# Altium schematic symbol library ICs.SchLib: 11 symbols
Pins are listed as number, name and electrical type; pins without a type are passive.

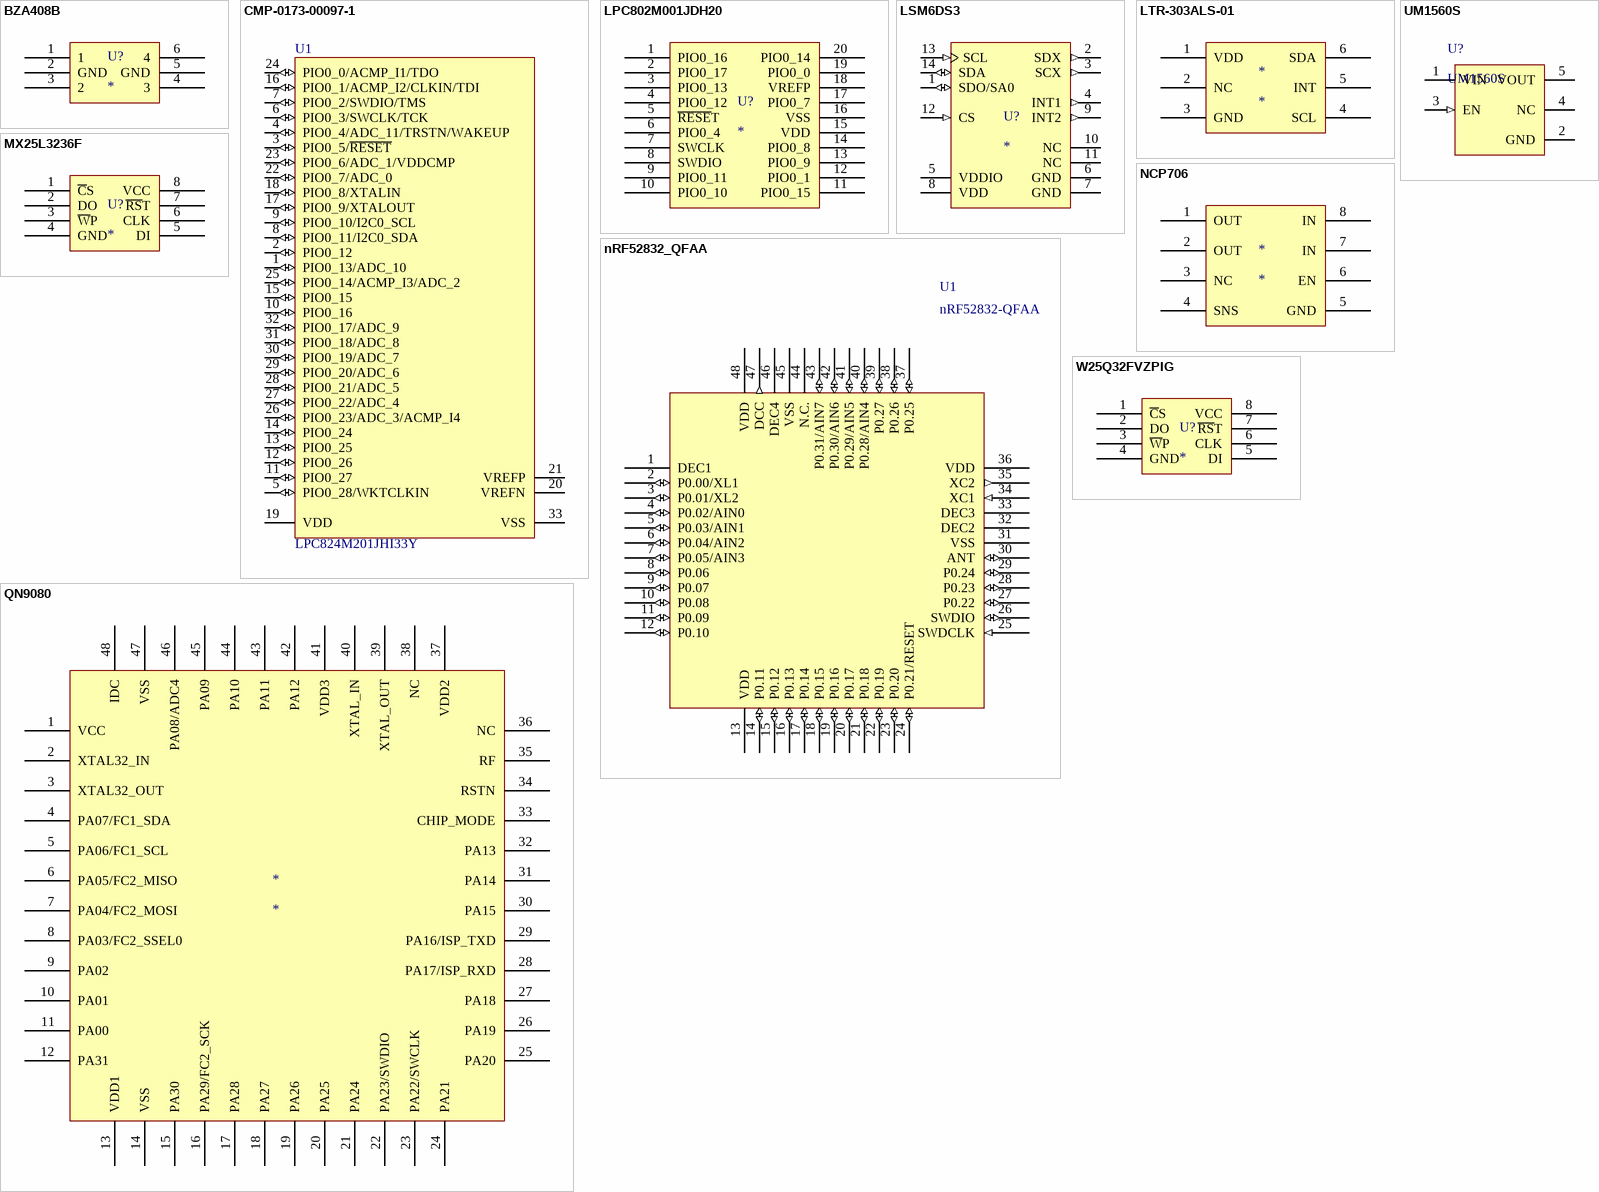
[diagram p0: symbols BZA408B to W25Q32FVZPIG]

## BZA408B
designator U?
Quadruple bidirectional ESD transient voltage suppressor
pins: 1, 2 GND, 3 2, 4 3, 5 GND, 6 4

## CMP-0173-00097-1
designator U1, comment LPC824M201JHI33Y
32-bit ARM Cortex-M0+ Microcontroller, 29 I/O, 32 KB Flash, 8 KB SRAM, -40 to 105 degC, 32-Pin HVQFN, Reel, RoHS; Manufacturer: NXP Semiconductors; RAM: 8 KB; Flash: 32 KB; Clock Speed: 30 MHz max.; ComponentLink1Description: Manufacturer URL; Mounting Technology: Surface Mount; Packing: Reel; Code_JEDEC: MO-220; ComponentLink2Description: Datasheet; PartNumber: LPC824M201JHI33; DatasheetVersion: Rev. 1; Core: Cortex-M0+; ComponentLink3Description: Package Specification; ComponentLink3URL: http://www.nxp.com/documents/outline_drawing/sot617-3_po.pdf; PackageDescription: 32-Pin Plastic Thermal Enhanced Very Thin Quad Flat Package, Body 5 x 5 mm, Pitch 0.5 mm; PackageVersion: 11-06-21, 06/2011; ComponentLink2URL: http://www.nxp.com/documents/data_sheet/LPC82X.pdf; ComponentLink1URL: www.nxp.com
footprint NXP-SOT617-3_N-adj (QFN, 32-Leads, Body 5x5mm, Pitch 0.5mm, Thermal Pad 3.6x3.6mm, IPC Medium Density)
pins: 1 PIO0_13/ADC_10 (io), 2 PIO0_12 (io) "PIO0_12 - General-purpose port 0 input/output 12. ISP entry pin. A LOW level on this pin during reset starts the ISP command handler.", 3 PIO0_5/~{RESET} (io), 4 PIO0_4/ADC_11/TRSTN/WAKEUP (io), 5 PIO0_28/WKTCLKIN (io), 6 PIO0_3/SWCLK/TCK (io), 7 PIO0_2/SWDIO/TMS (io), 8 PIO0_11/I2C0_SDA (io), 9 PIO0_10/I2C0_SCL (io), 10 PIO0_16 (io) "PIO0_16 - General-purpose port 0 input/output 16.", 11 PIO0_27 (io) "PIO0_27 - General-purpose port 0 input/output 27.", 12 PIO0_26 (io) "PIO0_26 - General-purpose port 0 input/output 26.", 13 PIO0_25 (io) "PIO0_25 - General-purpose port 0 input/output 25.", 14 PIO0_24 (io) "PIO0_24 - General-purpose port 0 input/output 24.", 15 PIO0_15 (io) "PIO0_15 - General-purpose port 0 input/output 15.", 16 PIO0_1/ACMP_I2/CLKIN/TDI (io), 17 PIO0_9/XTALOUT (io), 18 PIO0_8/XTALIN (io), 19 VDD (power) "Supply voltage for the I/O pad ring, the core voltage regulator, and the analog peripherals.", 20 VREFN (power) "ADC negative reference voltage.", 21 VREFP (power) "ADC positive reference voltage. Must be equal or lower than VDD.", 22 PIO0_7/ADC_0 (io), 23 PIO0_6/ADC_1/VDDCMP (io), 24 PIO0_0/ACMP_I1/TDO (io), 25 PIO0_14/ACMP_I3/ADC_2 (io), 26 PIO0_23/ADC_3/ACMP_I4 (io), 27 PIO0_22/ADC_4 (io), 28 PIO0_21/ADC_5 (io), 29 PIO0_20/ADC_6 (io), 30 PIO0_19/ADC_7 (io), 31 PIO0_18/ADC_8 (io), 32 PIO0_17/ADC_9 (io), 33 VSS (power) "Ground."

## LPC802M001JDH20
designator U?
32-bit Arm® Cortex®-M0+ microcontroller
footprint TSSOP20
pins: 1 PIO0_16, 2 PIO0_17, 3 PIO0_13, 4 PIO0_12, 5 ~{RESE}T, 6 PIO0_4, 7 SWCLK, 8 SWDIO, 9 PIO0_11, 10 PIO0_10, 11 PIO0_15, 12 PIO0_1, 13 PIO0_9, 14 PIO0_8, 15 VDD, 16 VSS, 17 PIO0_7, 18 VREFP, 19 PIO0_0, 20 PIO0_14

## LSM6DS3
designator U?
Motion sensor
footprint LGA-14
pins: 1 SDO/SA0 (io), 2 SDX (out) "Connect to VDDIO or GND/I2C serial data master (MSDA)", 3 SCX (out) "Connect to VDDIO or GND/I2C serial clock master (MSCL)", 4 INT1 (out) "Programmable interrupt 1", 5 VDDIO (power) "Power supply for I/O pins", 6 GND (power) "0 V supply", 7 GND (power) "0 V supply", 8 VDD (power) "Power supply", 9 INT2 (out) "Programmable interrupt 2  (INT2) / Data enable (DEN)/Programmable interrupt 2 (INT2)/  Data enable (DEN)/  I  2C master external synchronization  signal (MDRDY)", 10 NC "Leave unconnected", 11 NC "Leave unconnected", 12 CS (in) "I2C/SPI mode selection", 13 SCL (in) "I2C serial clock (SCL)  SPI serial port clock (SPC)", 14 SDA (io) "I2C serial data (SDA)  SPI serial data input (SDI)  3-wire interface serial data output  (SDO)"

## LTR-303ALS-01
designator *
Optical Sensor
footprint LTR-303ALS-01
pins: 1 VDD, 2 NC, 3 GND, 4 SCL, 5 INT, 6 SDA

## MX25L3236F
designator U?
NOR Flash Serial-SPI 3V/3.3V 32M-bit 4M x 8 8.5ns 8-Pin 8-SOP
footprint WSON8
pins: 1 ~{C}S, 2 DO, 3 ~{W}P, 4 GND, 5 DI, 6 CLK, 7 ~{RS}T, 8 VCC

## NCP706
designator *
footprint XDFN8
pins: 1 OUT, 2 OUT, 3 NC, 4 SNS, 5 GND, 6 EN, 7 IN, 8 IN, 9 GND hidden to GND

## nRF52832_QFAA
designator U1, comment nRF52832-QFAA
Multi-protocol Bluetooth Low Energy and 2.4GHz proprietary system-on-chip; Manufacturer: Nordic Semiconductor; Artikkelnr Noca: N.A.; Part Number: nRF52832-QFAA; Manufacturer Part Number: nRF52832-QFAA; Datasheet: *; LatestRevisionDate: 2014-11-26; Pin Count: 48; Publisher: Nordic Semiconductor; Published: 2014-11-26; Value: nRF52832-QFAA; Note: *; Supplier: Nordic Semiconductor; Supplier part number: *; 2nd source Supplier: *; 2nd source part number: *; Footprint Doc: QFN-48; Artikkelnr Simpro: N.A.
footprint QFN48P600X600X90-48N - duplicate (QFN, 48-Leads, Body 6,0x6,0mm (max), Pitch 0,40mm, IPC Medium Density)
pins: 1 DEC1 (power), 2 P0.00/XL1 (io), 3 P0.01/XL2 (io), 4 P0.02/AIN0 (io), 5 P0.03/AIN1 (io), 6 P0.04/AIN2 (io), 7 P0.05/AIN3 (io), 8 P0.06 (io), 9 P0.07 (io), 10 P0.08 (io), 11 P0.09 (io), 12 P0.10 (io), 13 VDD (power), 14 P0.11 (io), 15 P0.12 (io), 16 P0.13 (io), 17 P0.14 (io), 18 P0.15 (io), 19 P0.16 (io), 20 P0.17 (io), 21 P0.18 (io), 22 P0.19 (io), 23 P0.20 (io), 24 P0.21/RESET (io), 25 SWDCLK (in), 26 SWDIO (io), 27 P0.22 (io), 28 P0.23 (io), 29 P0.24 (io), 30 ANT (io), 31 VSS (power), 32 DEC2 (power), 33 DEC3 (power), 34 XC1 (in), 35 XC2 (out), 36 VDD (power), 37 P0.25 (io), 38 P0.26 (io), 39 P0.27 (io), 40 P0.28/AIN4 (io), 41 P0.29/AIN5 (io), 42 P0.30/AIN6 (io), 43 P0.31/AIN7 (io), 44 N.C. (power), 45 VSS (power), 46 DEC4 (power), 47 DCC (out), 48 VDD (power), 49 GND (power) hidden to GND

## QN9080
designator *
BLE microcontroller with 32-bit ARM Cortex-M4
footprint QFN48P600X600X90-48N - duplicate (QFN, 48-Leads, Body 6,0x6,0mm (max), Pitch 0,40mm, IPC Medium Density)
pins: 1 VCC, 2 XTAL32_IN, 3 XTAL32_OUT, 4 PA07/FC1_SDA, 5 PA06/FC1_SCL, 6 PA05/FC2_MISO, 7 PA04/FC2_MOSI, 8 PA03/FC2_SSEL0, 9 PA02, 10 PA01, 11 PA00, 12 PA31, 13 VDD1 (power), 14 VSS (power), 15 PA30, 16 PA29/FC2_SCK, 17 PA28, 18 PA27, 19 PA26, 20 PA25, 21 PA24, 22 PA23/SWDIO, 23 PA22/SWCLK, 24 PA21, 25 PA20, 26 PA19, 27 PA18, 28 PA17/ISP_RXD, 29 PA16/ISP_TXD, 30 PA15, 31 PA14, 32 PA13, 33 CHIP_MODE, 34 RSTN, 35 RF, 36 NC, 37 VDD2, 38 NC, 39 XTAL_OUT, 40 XTAL_IN, 41 VDD3 (power), 42 PA12, 43 PA11, 44 PA10, 45 PA09, 46 PA08/ADC4, 47 VSS (power), 48 IDC (power), 49 GND (power) hidden to GND

## UM1560S
designator U?
Single LDO, 1.8 to 8 V, Fixed Out 3.3 V, 0.3 A, -40 to 125 degC, 5-Pin SOT-23 (M5), RoHS, Tape and Reel
footprint SOT23-5
pins: 1 VIN (power) "Supply Input", 2 GND (power) "Ground", 3 EN (in) "Enable Input: Active High. High=ON; low=OFF. MIC5504 have an internal pull-down and this pin may be left floating.", 4 NC "No Connection. Pin is not internally connected.", 5 VOUT (power) "Output Voltage. When disable the MIC5504 switches in an internal 25 ohm load to discharge the external capacitors."

## W25Q32FVZPIG
designator U?
NOR Flash Serial-SPI 3V/3.3V 32M-bit 4M x 8 8.5ns 8-Pin WSON EP
footprint WSON8
pins: 1 ~{C}S, 2 DO, 3 ~{W}P, 4 GND, 5 DI, 6 CLK, 7 ~{RS}T, 8 VCC